# EAGLE library part RPI3 (library e14_Rpi3_RevA)
Device for Raspberry Pi 3 board created by Dave Young for www.element14.com More information and support community is available at https://www.element14.com/community/community/raspberry-pi
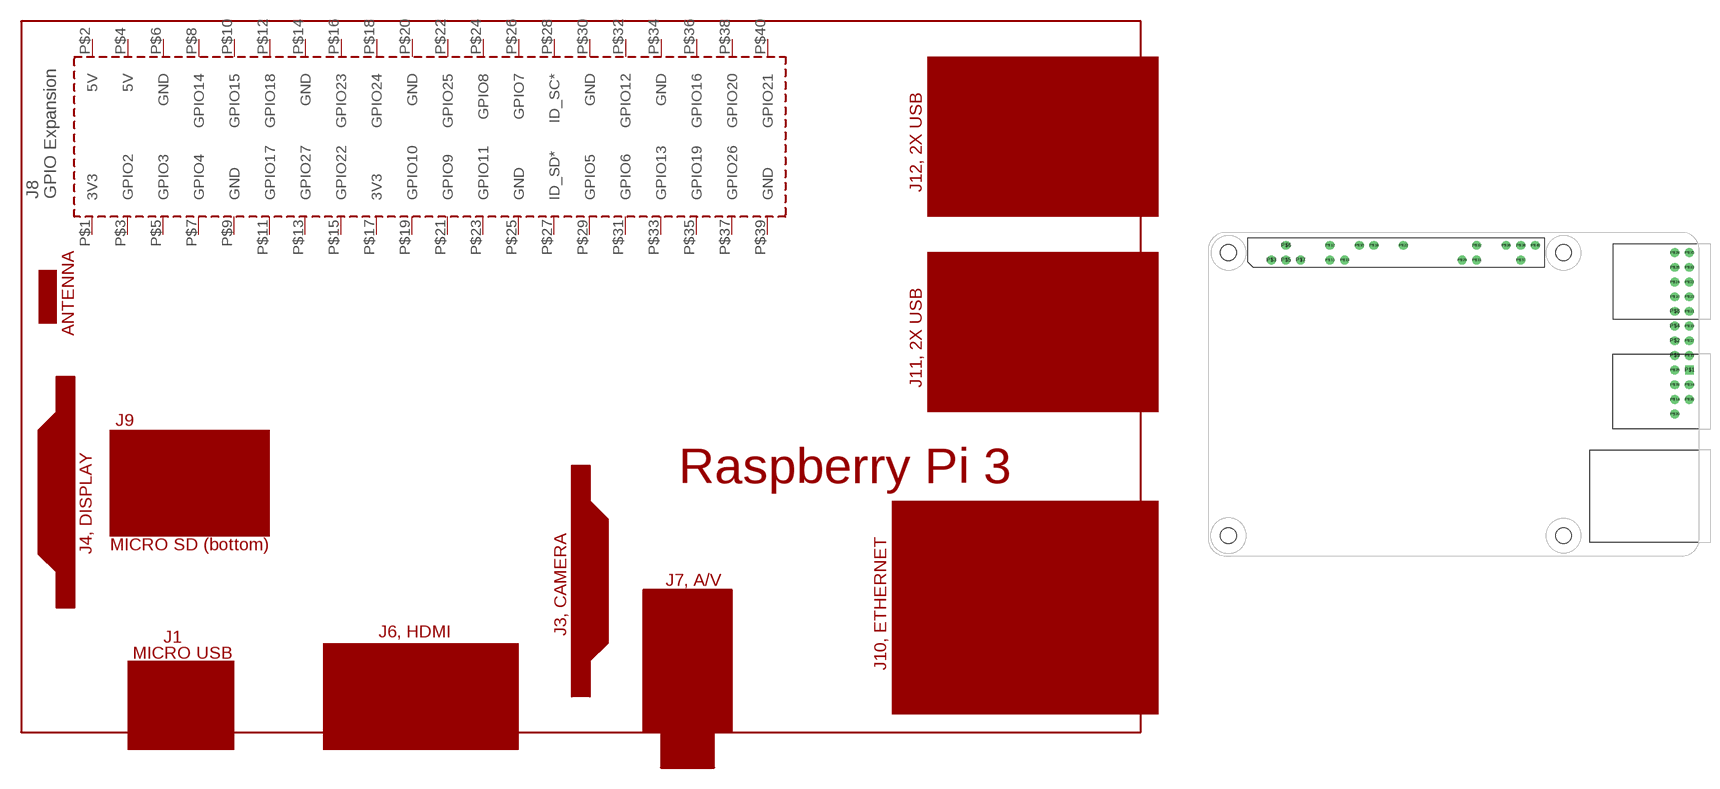
[diagram p0: symbol with the pads of RPI3; footprint RPI3]

Designator prefix PCB

## RPI3  [RPI3]
P$1  3V3
P$2  5V
P$3  GPIO2
P$4  5V
P$5  GPIO3
P$6  GND
P$7  GPIO4
P$8  GPIO14
P$9  GND
P$10  GPIO15
P$11  GPIO17
P$12  GPIO18
P$13  GPIO27
P$14  GND
P$15  GPIO22
P$16  GPIO23
P$17  3V3
P$18  GPIO24
P$19  GPIO10
P$20  GND
P$21  GPIO9
P$22  GPIO25
P$23  GPIO11
P$24  GPIO8
P$25  GND
P$26  GPIO7
P$27  ID_SD*
P$28  ID_SC*
P$29  GPIO5
P$30  GND
P$31  GPIO6
P$32  GPIO12
P$33  GPIO13
P$34  GND
P$35  GPIO19
P$36  GPIO16
P$37  GPIO26
P$38  GPIO20
P$39  GND
P$40  GPIO21

## Footprint RPI3 (pad centres in mm)
Package for the Raspberry Pi 3 board created by Dave Young for www.elemenet14.com based on documented dimensions and board measurements. For more documentation, please visit http://www.raspberrypi.org/documentation/hardware/raspberrypi/
drill 1.016 square: P$1 83.3,32.18
drill 1.016: P$2 80.747,37.262; P$3 10.897,51.232; P$4 80.747,39.802; P$5 13.437,51.232; P$6 13.437,53.772; P$7 15.977,51.232; P$8 80.747,42.342; P$9 80.747,34.722; P$10 80.747,44.882; P$11 21.057,51.232; P$12 21.057,53.772; P$13 23.597,51.232; P$14 80.747,27.102; P$15 83.287,34.722; P$16 26.137,53.772; P$17 83.287,37.262; P$18 28.677,53.772; P$19 83.287,39.802; P$20 80.747,24.562; P$21 83.287,42.342; P$22 33.757,53.772; P$23 83.287,44.882; P$24 80.747,47.422; P$25 80.747,32.182; P$26 80.747,49.962; P$27 83.287,47.422; P$28 80.747,52.502; P$29 43.917,51.232; P$30 83.287,27.102; P$31 46.457,51.232; P$32 46.457,53.772; P$33 83.287,49.962; P$34 83.287,29.642; P$35 83.287,52.502; P$36 51.537,53.772; P$37 54.077,51.232; P$38 54.077,53.772; P$39 80.747,29.642; P$40 56.617,53.772
hole 2.75 at 3.5,3.5
hole 2.75 at 61.5,3.5
hole 2.75 at 3.5,52.5
hole 2.75 at 61.5,52.5